# EAGLE library part ESP32-PICO-D4 (library esp32-wroom-32)
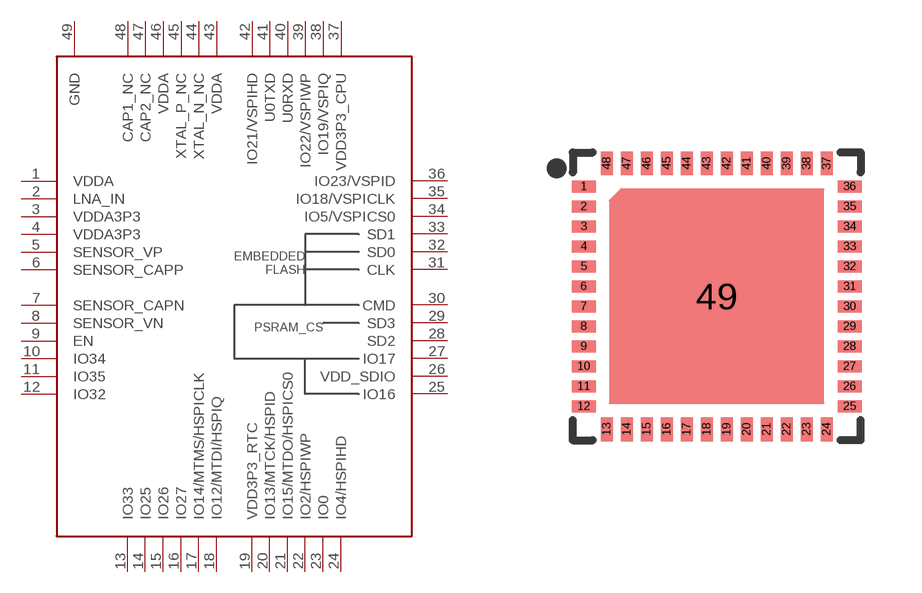
[diagram p2: symbol with the pads of ESP32-QFN48_7X7; footprint ESP32-QFN48_7X7]

Designator prefix -

## ESP32-PICO-D4 (MPN: ESP32-PICO-D4)  [ESP32-QFN48_7X7]
1  VDDA  pwr
2  LNA_IN
3  VDDA3P3  pwr
4  VDDA3P3  pwr
5  SENSOR_VP  in
6  SENSOR_CAPP  in
7  SENSOR_CAPN  in
8  SENSOR_VN  in
9  EN  in
10  IO34  in
11  IO35  in
12  IO32
13  IO33
14  IO25
15  IO26
16  IO27
17  IO14/MTMS/HSPICLK
18  IO12/MTDI/HSPIQ
19  VDD3P3_RTC  pwr
20  IO13/MTCK/HSPID
21  IO15/MTDO/HSPICS0
22  IO2/HSPIWP
23  IO0
24  IO4/HSPIHD
25  IO16
26  VDD_SDIO  pwr
27  IO17
28  SD2
29  SD3
30  CMD
31  CLK
32  SD0
33  SD1
34  IO5/VSPICS0
35  IO18/VSPICLK
36  IO23/VSPID
37  VDD3P3_CPU  pwr
38  IO19/VSPIQ
39  IO22/VSPIWP
40  U0RXD
41  U0TXD
42  IO21/VSPIHD
43  VDDA  pwr
44  XTAL_N_NC  nc
45  XTAL_P_NC  nc
46  VDDA  pwr
47  CAP2_NC  nc
48  CAP1_NC  nc
49  GND

## Footprint ESP32-QFN48_7X7 (pad centres in mm)
smd 0.6 x 0.3: 1 -3.325,2.75; 2 -3.325,2.25; 3 -3.325,1.75; 4 -3.325,1.25; 5 -3.325,0.75; 6 -3.325,0.25; 7 -3.325,-0.25; 8 -3.325,-0.75; 9 -3.325,-1.25; 10 -3.325,-1.75; 11 -3.325,-2.25; 12 -3.325,-2.75; 25 3.325,-2.75; 26 3.325,-2.25; 27 3.325,-1.75; 28 3.325,-1.25; 29 3.325,-0.75; 30 3.325,-0.25; 31 3.325,0.25; 32 3.325,0.75; 33 3.325,1.25; 34 3.325,1.75; 35 3.325,2.25; 36 3.325,2.75
smd 0.3 x 0.6: 13 -2.75,-3.325; 14 -2.25,-3.325; 15 -1.75,-3.325; 16 -1.25,-3.325; 17 -0.75,-3.325; 18 -0.25,-3.325; 19 0.25,-3.325; 20 0.75,-3.325; 21 1.25,-3.325; 22 1.75,-3.325; 23 2.25,-3.325; 24 2.75,-3.325; 37 2.75,3.325; 38 2.25,3.325; 39 1.75,3.325; 40 1.25,3.325; 41 0.75,3.325; 42 0.25,3.325; 43 -0.25,3.325; 44 -0.75,3.325; 45 -1.25,3.325; 46 -1.75,3.325; 47 -2.25,3.325; 48 -2.75,3.325
smd 1 x 1: 49 0,0